# Altium schematic symbol library Пасивные компоненты.SchLib: 13 symbols
Pins are listed as number, name and electrical type; pins without a type are passive.

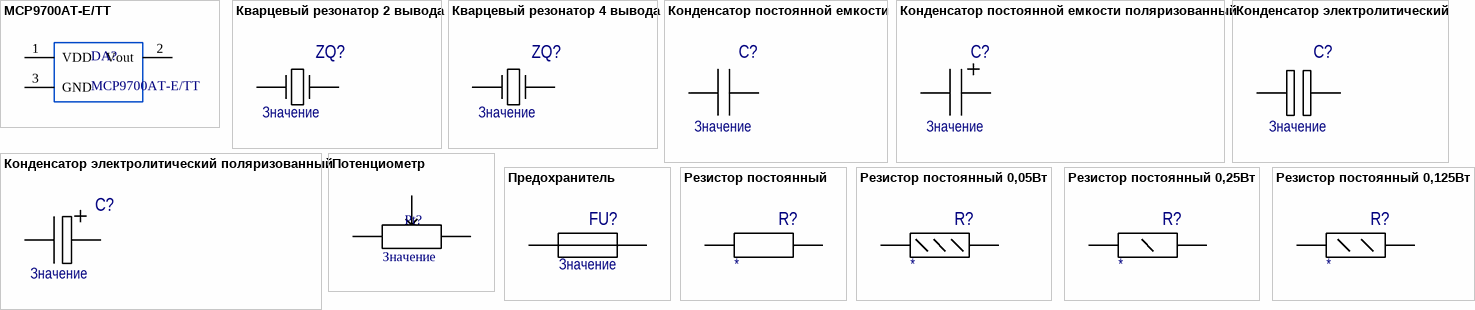
[diagram p0: symbols MCP9700AT-E/TT to Резистор постоянный 0,125Вт]

## MCP9700AT-E/TT
designator DA?
-40°C ~ 125°C - Analog, Local 10mV/°C Analog Voltage SOT-23(SOT-23-3) Temperature Sensors ROHS; Part: C127949; Value: MCP9700AT-E/TT; Alternative part: *
footprint SOT-23 (SOT23, 3-Leads, Body 2,90x2,30mm, Pitch 0,95mm, IPC Medium Density)
pins: 1 VDD "POWER", 2 Vout "POWER", 3 GND "POWER"

## Кварцевый резонатор 2 вывода
designator ZQ?, comment Значение
Кварцевый резонатор; Value: Значение; Part: *; Alternative part: *
pins: 1, 2

## Кварцевый резонатор 4 вывода
designator ZQ?, comment Значение
Кварцевый резонатор; Value: Значение; Part: *; Alternative part: *
pins: 1, 3

## Конденсатор постоянной емкости
designator C?, comment Значение
Capacitor; Value: Значение; Part: *; Alternative part: *
footprint Cap 0605 D (Aluminum SMT 8.6x8.6x10mm cap)
footprint C_0603 (Chip Capacitor; Body 1.6 x 0.8 mm (LxW typ))
footprint C_0805 (Capacitor Pattern)
pins: 1, 2

## Конденсатор постоянной емкости поляризованный
designator C?, comment Значение
Capacitor; Value: Значение; Part: *; Alternative part: *
footprint Cap 0605 D (Aluminum SMT 8.6x8.6x10mm cap)
footprint C_0603 (Chip Capacitor; Body 1.6 x 0.8 mm (LxW typ))
footprint C_0805 (Capacitor Pattern)
pins: 1, 2

## Конденсатор электролитический
designator C?, comment Значение
Capacitor; Part: *; Alternative part: *; Value: Значение
pins: 1, 2

## Конденсатор электролитический поляризованный
designator C?, comment Значение
Capacitor; Part: *; Alternative part: *; Value: Значение
pins: 1, 2

## Потенциометр
designator Pt?  value Значение  (hidden comment: Потенциометр)
pins: 1, 2, 3

## Предохранитель
designator FU?, comment Значение
Предохранитель; Value: Значение; Part: *; Alternative part: *; ComponentLink1Description: Link; ComponentLink1URL: *
pins: 1, 2

## Резистор постоянный
designator R?
Резистор постоянный; Value: *; Part: *; Alternative part: *
pins: 1, 2

## Резистор постоянный 0,05Вт
designator R?
Резистор постоянный 0,05Вт; Part: *; Alternative part: *; Value: *
pins: 1, 2

## Резистор постоянный 0,25Вт
designator R?
Резистор постоянный 0,25Вт; Part: *; Alternative part: *; Value: *
pins: 1, 2

## Резистор постоянный 0,125Вт
designator R?
Резистор постоянный 0,125Вт; Part: *; Alternative part: *; Value: *
pins: 1, 2